# Altium schematic symbol library Terra.SCHLIB: 53 symbols
Pins are listed as number, name and electrical type; pins without a type are passive.

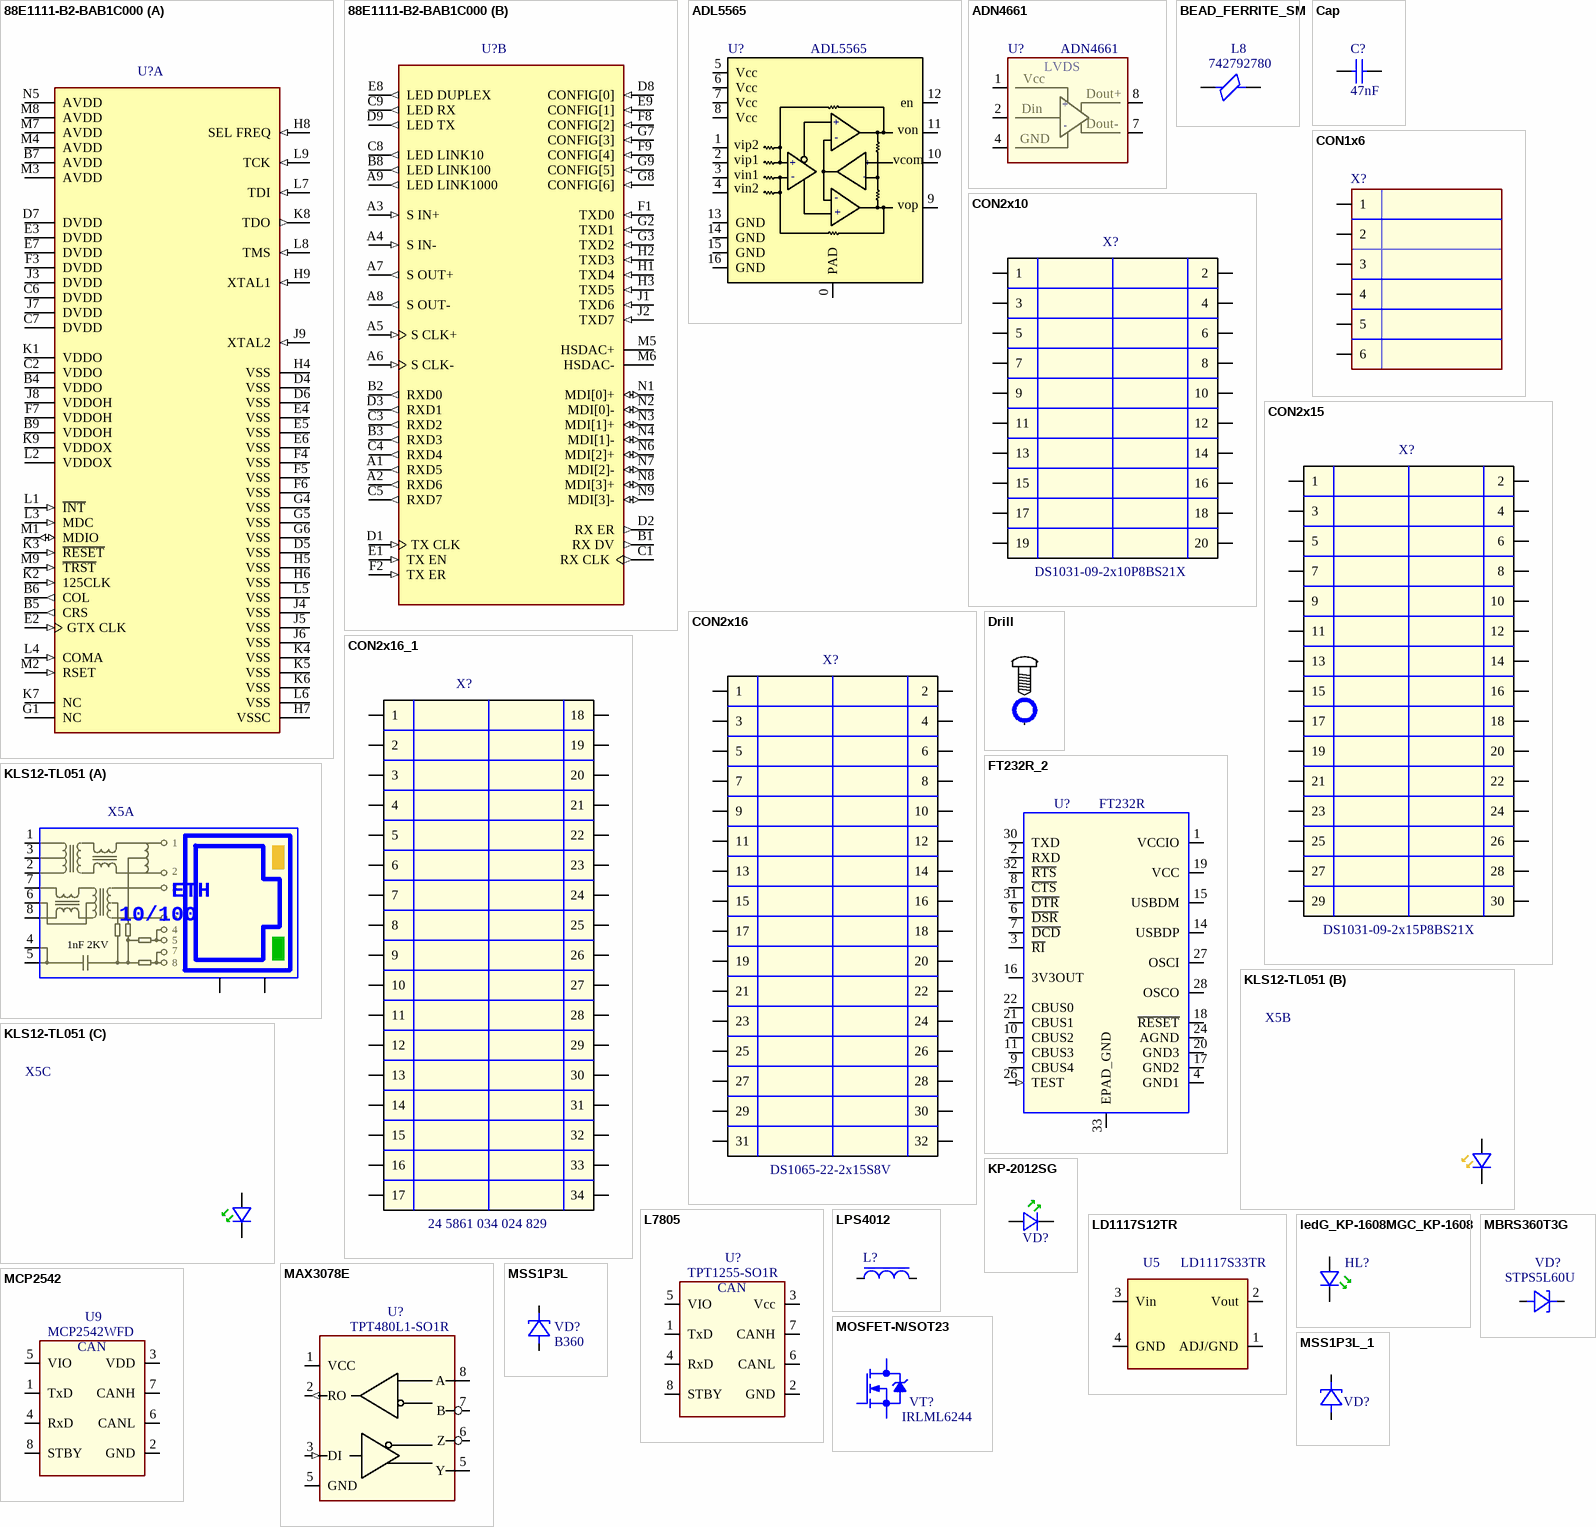
[diagram p0: symbols 88E1111-B2-BAB1C000 to MSS1P3L_1]

## 88E1111-B2-BAB1C000
designator U?  (value not drawn)
Integrated 10/100/1000 Ultra Gigabit Ethernet Transceiver; Value: 88E1111-B2-BAB1C000; PackageReference: QFN96
footprint Marvell_88E1111-B2-BAB1C000_0
part A pins: B4 VDDO (power), B5 CRS (out), B6 COL (out), B7 AVDD (power), B9 VDDOH (power), C2 VDDO (power), C6 DVDD (power), C7 DVDD (power), D4 VSS (power), D5 VSS (power), D6 VSS (power), D7 DVDD (power), E2 GTX CLK (in), E3 DVDD (power), E4 VSS (power), E5 VSS (power), E6 VSS (power), E7 DVDD (power), F3 DVDD (power), F4 VSS (power), F5 VSS (power), F6 VSS (power), F7 VDDOH (power), G1 NC, G4 VSS (power), G5 VSS (power), G6 VSS (power), H4 VSS (power), H5 VSS (power), H6 VSS (power), H7 VSSC (power), H8 SEL FREQ (in), H9 XTAL1 (in), J3 DVDD (power), J4 VSS (power), J5 VSS (power), J6 VSS (power), J7 DVDD (power), J8 VDDOH (power), J9 XTAL2 (in), K1 VDDO (power), K2 125CLK (in), K3 ~{RESET} (in), K4 VSS (power), K5 VSS (power), K6 VSS (power), K7 NC, K8 TDO (out), K9 VDDOX (power), L1 ~{INT} (in), L2 VDDOX (power), L3 MDC (in), L4 COMA (in), L5 VSS (power), L6 VSS (power), L7 TDI (in), L8 TMS (in), L9 TCK (in), M1 MDIO (io), M2 RSET (in), M3 AVDD (power), M4 AVDD (power), M7 AVDD (power), M8 AVDD (power), M9 ~{TRST} (in), N5 AVDD (power)
part B pins: A1 RXD5 (out), A2 RXD6 (out), A3 S IN+ (in), A4 S IN- (in), A5 S CLK+ (in), A6 S CLK- (in), A7 S OUT+ (out), A8 S OUT- (out), A9 LED LINK1000 (out), B1 RX DV (out), B2 RXD0 (out), B3 RXD3 (out), B8 LED LINK100 (out), C1 RX CLK (out), C3 RXD2 (out), C4 RXD4 (out), C5 RXD7 (out), C8 LED LINK10 (out), C9 LED RX (out), D1 TX CLK (in), D2 RX ER (out), D3 RXD1 (out), D8 CONFIG[0] (in), D9 LED TX (out), E1 TX EN (in), E8 LED DUPLEX (out), E9 CONFIG[1] (in), F1 TXD0 (in), F2 TX ER (in), F8 CONFIG[2] (in), F9 CONFIG[4] (in), G2 TXD1 (in), G3 TXD2 (in), G7 CONFIG[3] (in), G8 CONFIG[6] (in), G9 CONFIG[5] (in), H1 TXD4 (in), H2 TXD3 (in), H3 TXD5 (in), J1 TXD6 (in), J2 TXD7 (in), M5 HSDAC+, M6 HSDAC-, N1 MDI[0]+ (io), N2 MDI[0]- (io), N3 MDI[1]+ (io), N4 MDI[1]- (io), N6 MDI[2]+ (io), N7 MDI[2]- (io), N8 MDI[3]+ (io), N9 MDI[3]- (io)

## ADL5565
designator U?
6 GHz Differential Amplifier; Value: ADL5565; PackageReference: LFCSP-16; ClassName: *
footprint CP_16_2_ADI-L
pins: 0 PAD (power), 1 vip2, 2 vip1, 3 vin1, 4 vin2, 5 Vcc (power), 6 Vcc (power), 7 Vcc (power), 8 Vcc (power), 9 vop, 10 vcom, 11 von, 12 en, 13 GND (power), 14 GND (power), 15 GND (power), 16 GND (power)
text: +; -

## ADN4661
designator U?
LVDS, High Speed Differential Driver; Value: DS90LV047A; PackageReference: SO8
pins: 1 Vss (power), 2 Din+, 3 NC (power), 4 GND (power), 5 NC (power), 6 NC (power), 7 OUT0-, 8 OUT0+
text: LVDS; Vcc; Dout+; +; Din; -; Dout-

## BEAD_FERRITE_SM
designator L8, comment 742792780
Wurth Elektronik EMI FILTERS FERRITE BEAD, 220R@100MHz, 0.35R; PackageReference: 0402; Value: 742792780; ClassName: *
footprint 0402
footprint L0402 (Chip Choke 1.0x0.5mm)
pins: 1, 2

## Cap
designator C?  value 47nF  (hidden comment: Cap)
Конденсатор керамический; PackageReference: 0603
simulation model CAP (Capacitor)
signal-integrity model Cap
footprint C0603
footprint C0805
footprint C1812 (Chip Capacitor, 2-Leads, Body 4,5x3,3mm, IPC Medium Density)
pins: 1, 2

## CON1x6
designator X?
Разъем JTAG; Value: CON1x6
footprint MW-03M
pins: 1, 2, 3, 4, 5, 6

## CON2x10
designator X?, comment DS1031-09-2x10P8BS21X
Гребенка 1.27 мм на плату; Value: DS1031-09-2x10P8BS21X
pins: 1, 2, 3, 4, 5, 6, 7, 8, 9, 10, 11, 12, 13, 14, 15, 16, 17, 18, 19, 20

## CON2x15
designator X?, comment DS1031-09-2x15P8BS21X
footprint HEADER-2X16 (PLD2-12  Штыревой соединитель 2х16 шаг 2мм двухрядный прямой)
pins: 1, 2, 3, 4, 5, 6, 7, 8, 9, 10, 11, 12, 13, 14, 15, 16, 17, 18, 19, 20, 21, 22, 23, 24, 25, 26, 27, 28, 29, 30

## CON2x16
designator X?, comment DS1065-22-2х15S8V
Гнездо 1.27 мм на плату; Value: DS1065-22-2х15S8V
pins: 1, 2, 3, 4, 5, 6, 7, 8, 9, 10, 11, 12, 13, 14, 15, 16, 17, 18, 19, 20, 21, 22, 23, 24, 25, 26, 27, 28, 29, 30, 31, 32

## CON2x16_1
designator X?, comment 24 5861 034 024 829
Розетка  Kyocera; Value: 24 5861 034 024 829
pins: 1, 2, 3, 4, 5, 6, 7, 8, 9, 10, 11, 12, 13, 14, 15, 16, 17, 18, 19, 20, 21, 22, 23, 24, 25, 26, 27, 28, 29, 30, 31, 32, 33, 34

## Drill
designator DRL?  (value not drawn)  (no BOM)
Крепёжное отверстие
footprint Drill 0.8 (Крепёжное отверстие 0.8мм)
footprint Drill 2.2 (Крепёжное отверстие 2.2мм)
footprint Drill 2.8 (Крепёжное отверстие 2.8мм)
footprint Drill 3.2 (Крепёжное отверстие 3.2мм)
footprint PAD3
pins: 1

## FT232R_2
designator U?, comment FT232R
USB to serial UART interface; Part Class: ICS; Item Num: P01-17819R; Value: FT232RQ-REEL; Device: U17; Num Pins: 32; PackageReference: QFN32
footprint Qfn32-ftdi
pins: 1 VCCIO (power), 2 RXD, 3 ~{RI}, 4 GND1 (power), 6 ~{DSR}, 7 ~{DCD}, 8 ~{CTS}, 9 CBUS4, 10 CBUS2, 11 CBUS3, 14 USBDP, 15 USBDM, 16 3V3OUT (power), 17 GND2 (power), 18 ~{RESET}, 19 VCC (power), 20 GND3 (power), 21 CBUS1, 22 CBUS0, 24 AGND (power), 26 TEST (in), 27 OSCI, 28 OSCO, 30 TXD, 31 ~{DTR}, 32 ~{RTS}, 33 EPAD_GND (power)

## KLS12-TL051
designator X5  (value not drawn)
10/100 RJ45 с трансформаторами и двумя светодиодами; Value: KLS12-TL051
footprint KLS12-TL051 (10/100 ETH разъём с двумя светодиодами)
part A pins: 0 PAD1, 0 PAD2, 1, 2, 3, 4, 5, 6, 7, 8
part B pins: 11, 12
part C pins: 9, 10
part A text: ETH; 10/100; 1nF 2KV

## KP-2012SG
designator VD?, comment Красный  (value not drawn)
Светодиод зелёный; Value: KP-2012SGD; Color: Green; PackageReference: 0603
footprint LED0805R
footprint LED0805G
footprint LED0805Y
pins: 1, 2

## L7805
designator U?, comment TPT1255-SO1R
CAN Transceiver; PackageReference: SO8; Value: TPT1255-SO1R
footprint SO8 (SOIC, 8-Leads, Body 5,0x4,0mm (max), Pitch 1,27mm)
pins: 1 TxD, 2 GND (power), 3 Vcc (power), 4 NC hidden, 4 RxD, 5 NC hidden, 5 VIO, 6 CANL, 7 CANH, 8 STBY
text: CAN

## LD1117S12TR
designator U5  value LD1117S33TR  (hidden comment: LD1117S12TR)
Линейный стабилизатор; PackageReference: SOT-223; ClassName: *
footprint SOT223
pins: 1 ADJ/GND, 2 Vout, 3 Vin, 4 GND

## ledG_KP-1608MGC_KP-1608
designator HL?
1.6X0.8mm SMD  LED; Value: KP-1608MGC; LxWxH(mm): 1,6x0,8x1,1; PackageReference: 0603; Package: KP-1608_16x08x11
footprint KP-1608_16x08x11_L
footprint KP-1608_16x08x11_N
pins: 1 Anode, 2 Cathode

## LPS4012
designator L?, comment 4.7uH  (value not drawn)
4.7uH, 3.4A, 0.047R; PackageReference: 4.7uH
footprint ind_252012CDMQCDS_25x20x12_L (Chip Inductor, Body 2.5x2.0mm, IPC High Density)
pins: 1, 2

## MAX3078E
designator U?, comment TPT480L1-SO1R
RS-485 Transievers; PackageReference: SO8; Value: TPT480L1-SO1R
footprint SO8 (SOIC, 8-Leads, Body 5,0x4,0mm (max), Pitch 1,27mm)
pins: 1 VCC (power), 2 RO (out), 3 DI (in), 5 GND (power), 5 Y, 6 Z, 7 B, 8 A

## MBRS360T3G
designator VD?, comment STPS5L60U
Диод Шоттки силовой; PCB_SEL: POWER1; PackageReference: SMB; Value: STPS5L60U
footprint DO214AC
pins: 1 ANODE, 2 CATHODE

## MCP2542
designator U9, comment MCP2542WFD
CAN Transceiver; PackageReference: SO8; Value: MCP2542WFD; ClassName: CAN BUS
footprint SO8 (SOIC, 8-Leads, Body 5,0x4,0mm (max), Pitch 1,27mm)
pins: 1 TxD, 2 GND (power), 3 VDD (power), 4 NC hidden, 4 RxD, 5 NC hidden, 5 VIO, 6 CANL, 7 CANH, 8 STBY
text: CAN

## MOSFET-N/SOT23
designator VT?, comment IRLML6244
Value: IRLML6244TRPbF; PackageReference: SOT23
footprint SOT23_123
pins: 1 Gate, 2 Sourse, 3 Drain

## MSS1P3L
designator VD?, comment B360
Диод Шоттки 40В 5А; PCB_SEL: POWER1; PackageReference: DO-214AA; Value: B360
footprint DO214AA (Molded Diode, 2-Leads, Body 4,4x3,6mm)
pins: 1, 2

## MSS1P3L_1
designator VD?, comment B360  (value not drawn)
Диод Шоттки 40В 0.2А; Value: 1PS79SB30,115; PackageReference: SOD-523
pins: 1, 2

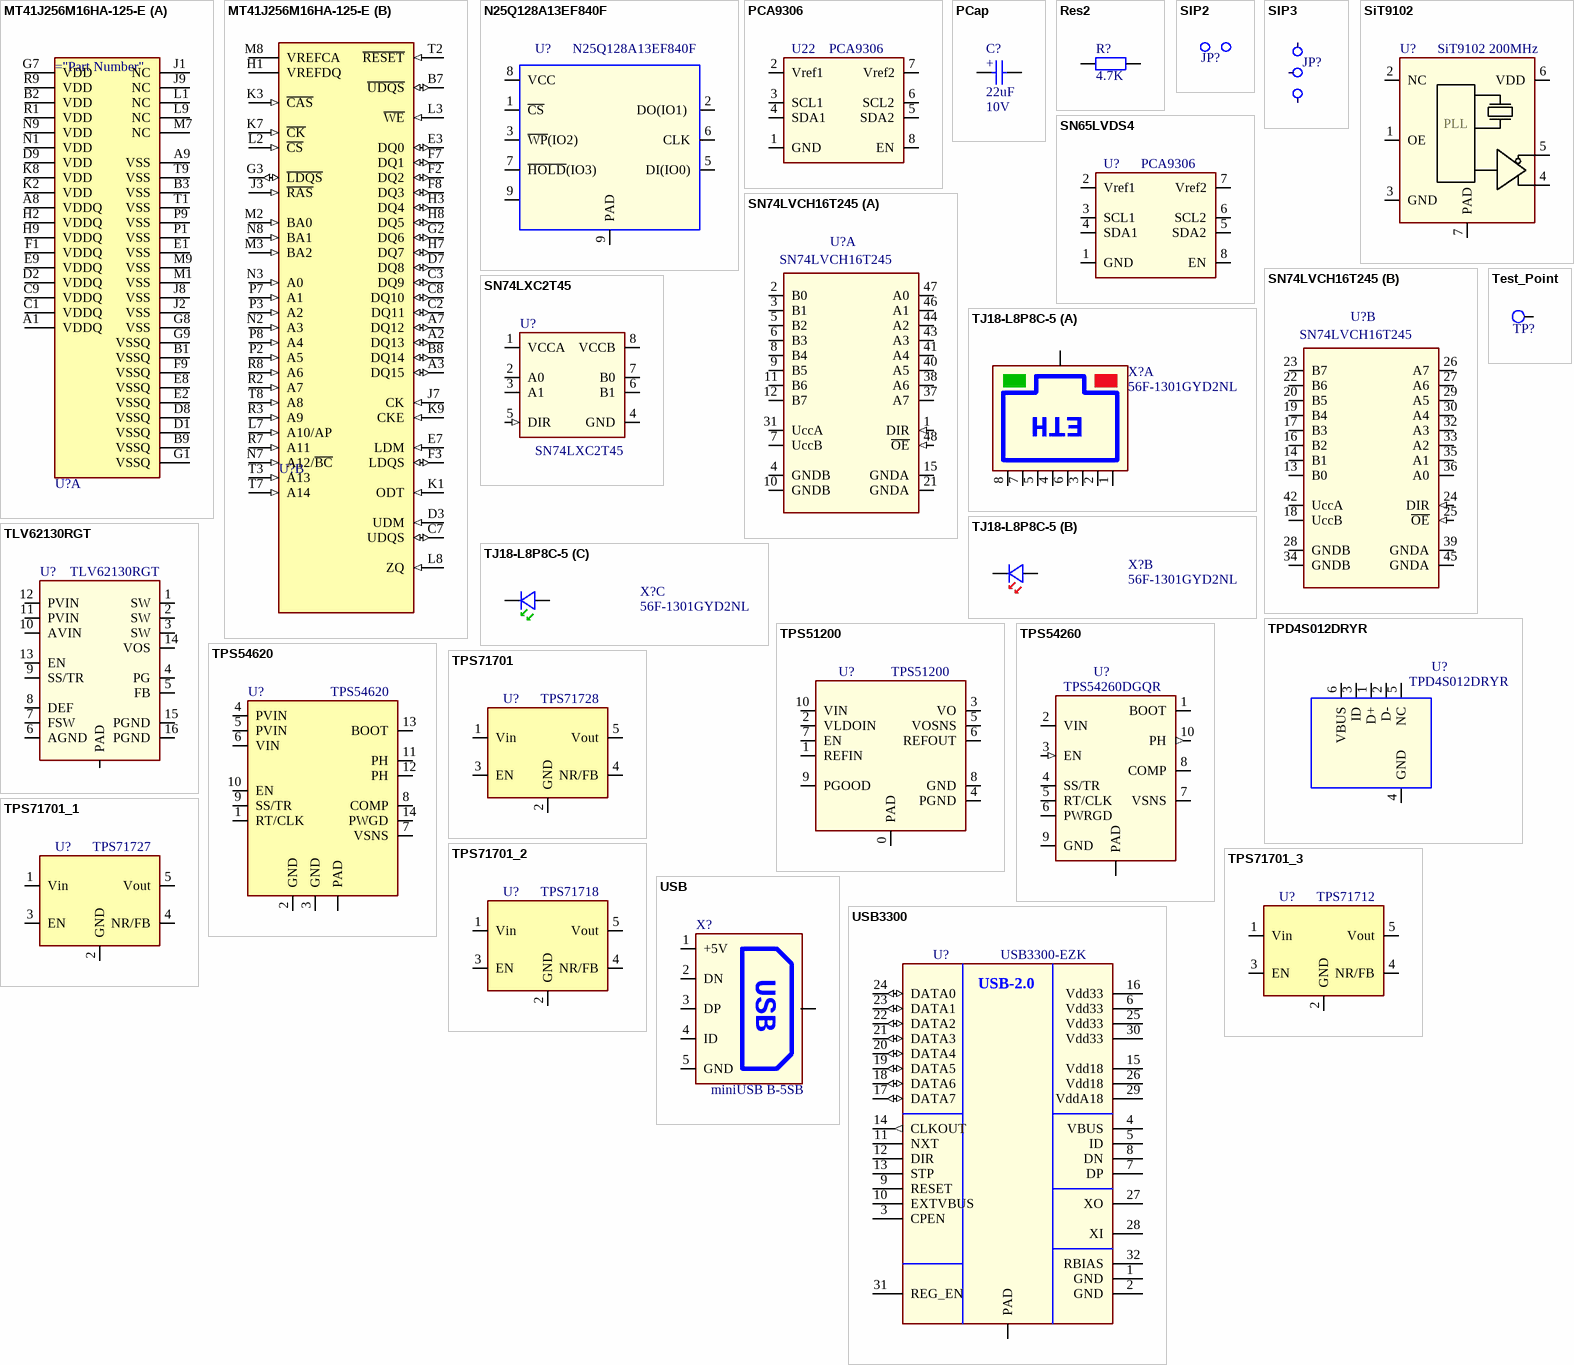
[diagram p1: symbols MT41J256M16HA-125-E to USB3300]

## MT41J256M16HA-125-E
designator U?  (value not drawn)
DDR3 SDRAM 32Meg x 16 x 8 banks; Value: MT41J256M16HA-125-E; PackageReference: FBGA-96
footprint FBGA96_9X14_MRN
part A pins: A1 VDDQ (power), A8 VDDQ (power), A9 VSS (power), B1 VSSQ (power), B2 VDD (power), B3 VSS (power), B9 VSSQ (power), C1 VDDQ (power), C9 VDDQ (power), D1 VSSQ (power), D2 VDDQ (power), D8 VSSQ (power), D9 VDD (power), E1 VSS (power), E2 VSSQ (power), E8 VSSQ (power), E9 VDDQ (power), F1 VDDQ (power), F9 VSSQ (power), G1 VSSQ (power), G7 VDD (power), G8 VSS (power), G9 VSSQ (power), H2 VDDQ (power), H9 VDDQ (power), J1 NC, J2 VSS (power), J8 VSS (power), J9 NC, K2 VDD (power), K8 VDD (power), L1 NC, L9 NC, M1 VSS (power), M7 NC, M9 VSS (power), N1 VDD (power), N9 VDD (power), P1 VSS (power), P9 VSS (power), R1 VDD (power), R9 VDD (power), T1 VSS (power), T9 VSS (power)
part B pins: A2 DQ13 (io), A3 DQ15 (io), A7 DQ12 (io), B7 ~{UDQS} (io), B8 DQ14 (io), C2 DQ11 (io), C3 DQ9 (io), C7 UDQS (io), C8 DQ10 (io), D3 UDM (in), D7 DQ8 (io), E3 DQ0 (io), E7 LDM (in), F2 DQ2 (io), F3 LDQS (io), F7 DQ1 (io), F8 DQ3 (io), G2 DQ6 (io), G3 ~{LDQS} (io), H1 VREFDQ (power), H3 DQ4 (io), H7 DQ7 (io), H8 DQ5 (io), J3 ~{RAS} (in), J7 CK (in), K1 ODT (in), K3 ~{CAS} (in), K7 ~{CK} (in), K9 CKE (in), L2 ~{CS} (in), L3 ~{WE} (in), L7 A10/AP (in), L8 ZQ (in), M2 BA0 (in), M3 BA2 (in), M8 VREFCA (power), N2 A3 (in), N3 A0 (in), N7 A12/~{BC} (in), N8 BA1 (in), P2 A5 (in), P3 A2 (in), P7 A1 (in), P8 A4 (in), R2 A7 (in), R3 A9 (in), R7 A11 (in), R8 A6 (in), T2 ~{RESET} (in), T3 A13 (in), T7 A14 (in), T8 A8 (in)

## N25Q128A13EF840F
designator U?
Serial NOR Flash 128Mb 3V; Value: N25Q128A13EF840F; PackageReference: MLP8
footprint SO16_WIDE
pins: 1 ~{CS}, 2 DO(IO1) , 3 ~{WP}(IO2), 5 DI(IO0), 6 CLK, 7 ~{HOLD}(IO3), 8 VCC (power), 9 (power), 9 PAD (power)

## PCA9306
designator U22  value PCA9306
Преобразователь уровня I2C; PackageReference: QFN-10; ClassName: LEVEL SHIFTER
footprint QFN-10
footprint 7WBD3306AMUTCG
pins: 1 GND (power), 2 Vref1 (power), 3 SCL1, 4 SDA1, 5 SDA2, 6 SCL2, 7 Vref2 (power), 8 EN

## PCap
designator C?, comment value 22uF  Voltage: 10V  (hidden comment: сap)
Конденсатор керамический; Info: X5R 10%  GRM32ER61A226; PackageReference: "B" 3528
simulation model CAP (Capacitor)
signal-integrity model Cap
footprint (A)3216 (Танталовый конденсатор "A" 3,3x1,6mm)
footprint (B)3528 (Танталовый конденсатор "B" 3,5x2,0mm)
footprint (C)6032 (Танталовый конденсатор "C" 6,1x3,4mm)
footprint (D)7343 (Танталовый конденсатор "D" 7,4x4,3mm)
footprint (E)7343 (Танталовый конденсатор "E" 7,4x4,3mm)
pins: 1, 2
text: +

## Res2
designator R?  value 4.7K  (hidden comment: Res2)
Резистор; PackageReference: 0402
simulation model RESISTOR (Resistor)
signal-integrity model Res
footprint R0603
footprint R0805
footprint R0402 (Chip Resistor, Body 1.0x0.5mm, IPC High Density)
pins: 1, 2

## SIP2
designator JP?  (no BOM)
Печатная перемычка на плате
footprint JUMP
pins: 1, 2

## SIP3
designator JP?  (no BOM)
Печатная перемычка на плате
footprint JUMP-3
pins: 1, 2, 3

## SiT9102
designator U?, comment SiT9102 200MHz
Value: SiT9102
pins: 1 OE (power), 2 NC, 3 GND (power), 4 CLKP, 5 CLKN, 6 VDD (power), 7 PAD (power)
text: PLL

## SN65LVDS4
designator U?  value PCA9306
Преобразователь уровня I2C
footprint QFN-10
footprint 7WBD3306AMUTCG
pins: 1 GND (power), 2 Vref1 (power), 3 SCL1, 4 SDA1, 5 SDA2, 6 SCL2, 7 Vref2 (power), 8 EN

## SN74LVCH16T245
designator U?
Преобразователь уровня; Value: SN74LVCH16T245; PackageReference: PSOP-DGG
footprint PSOP-DGG
footprint SOP50P810X120-48N
pins on every part: 173 hidden, 174 hidden
part A pins: 1 DIR (in), 2 B0, 3 B1, 4 GNDB, 5 B2, 6 B3, 7 UccB, 8 B4, 9 B5, 10 GNDB, 11 B6, 12 B7, 15 GNDA, 21 GNDA, 31 UccA, 37 A7, 38 A6, 40 A5, 41 A4, 43 A3, 44 A2, 46 A1, 47 A0, 48 ~{OE} (in)
part B pins: 13 B0, 14 B1, 16 B2, 17 B3, 18 UccB, 19 B4, 20 B5, 22 B6, 23 B7, 24 DIR (in), 25 ~{OE} (in), 26 A7, 27 A6, 28 GNDB, 29 A5, 30 A4, 32 A3, 33 A2, 34 GNDB, 35 A1, 36 A0, 39 GNDA, 42 UccA, 45 GNDA

## SN74LXC2T45
designator U?
Преобразователь уровня; PackageReference: VSSOP; Value: SN74LXC2T45
footprint SOP50P310X90-8N
pins: 1 VCCA (power), 2 A0, 3 A1, 4 GND (power), 5 DIR (in), 6 B1, 7 B0, 8 VCCB (power)

## Test_Point
designator TP?  (no BOM)
Тестовая точка на плате; MarkPCB: +5V
footprint TP_0MM5_1MM0 (Тестовая точка с отверстием 0.5мм и площадкой 1мм)
pins: 1 e1

## TJ18-L8P8C-5
designator X?, comment 56F-1301GYD2NL
10/100 ETH разъём с трансформаторами и двумя светодиодами; Value: 56F-1301GYD2NL
footprint TJ18-L8P8C-5 (10/100 ETH разъём с двумя светодиодами)
footprint ETH (10/100 ETH разъём с двумя светодиодами)
part A pins: 0, 1, 2, 3, 4, 5, 6, 7, 8
part B pins: 9, 10
part C pins: 11, 12
part A text: ETH

## TLV62130RGT
designator U?
3V to 17V 3A Step-Down Converter; PackageReference: VQFN-16; Value: TLV62130RGT
pins: 0 PAD (power), 1 SW, 2 SW, 3 SW, 4 PG, 5 FB, 6 AGND (power), 7 FSW, 8 DEF, 9 SS/TR, 10 AVIN (power), 11 PVIN (power), 12 PVIN (power), 13 EN, 14 VOS, 15 PGND (power), 16 PGND (power)

## TPD4S012DRYR
designator U?  value TPD4S012DRYR
Защитные диоды USB; PackageReference: SON6
footprint SON6
pins: 1 D+, 2 D-, 3 ID, 4 GND, 5 NC, 6 VBUS

## TPS51200
designator U?
Sink and Source DDR Termination Regulator; Value: TPS51200; PackageReference: VSON10
pins: 0 PAD, 1 REFIN, 2 VLDOIN, 3 VO, 4 PGND, 5 VOSNS, 6 REFOUT, 7 EN, 8 GND, 9 PGOOD, 10 VIN, 173 hidden, 174 hidden

## TPS54260
designator U?  value TPS54260DGQR
Импульсный понижающий преобразователь o 60V Input, 2.5A; PCB_SEL: POWER1; PackageReference: MSOP-10
pins: 0 PAD (power), 1 BOOT, 2 VIN (power), 3 EN (in), 4 SS/TR, 5 RT/CLK, 6 PWRGD, 7 VSNS, 8 COMP, 9 GND (power), 10 PH (out)

## TPS54620
designator U?, comment value TPS54620  (hidden comment: TPS60500)
4.5V to 17V  6A Step-down Converter; PackageReference: VQFN-14
pins: 0 PAD, 1 RT/CLK, 2 GND, 3 GND, 4 PVIN, 5 PVIN, 6 VIN, 7 VSNS, 8 COMP, 9 SS/TR, 10 EN, 11 PH, 12 PH, 13 BOOT, 14 PWGD

## TPS71701
designator U?  value TPS71728
Линейный стабилизатор +2.8В; PackageReference: SC70-5
footprint SOT23_5
pins: 1 Vin, 2 GND, 3 EN, 4 NR/FB, 5 Vout

## TPS71701_1
designator U?  value TPS71727
Линейный стабилизатор +2.7В; PackageReference: SC70-5
footprint SOT23_5
pins: 1 Vin, 2 GND, 3 EN, 4 NR/FB, 5 Vout

## TPS71701_2
designator U?  value TPS71718
Линейный стабилизатор +1.8В; PackageReference: SC70-5
footprint SOT23_5
pins: 1 Vin, 2 GND, 3 EN, 4 NR/FB, 5 Vout

## TPS71701_3
designator U?  value TPS71712
Линейный стабилизатор +1.2В; PackageReference: SC70-5
footprint SOT23_5
pins: 1 Vin, 2 GND, 3 EN, 4 NR/FB, 5 Vout

## USB
designator X?  value miniUSB B-5SB  (hidden comment: USB)
5-контактная SMD розетка
3D model SW3dPS-USB_mini_B (PCB3D Model)
footprint USBSMALL
pins: 0 PAD, 1 +5V, 2 DN, 3 DP, 4 ID, 5 GND

## USB3300
designator U?, comment USB3300-EZK
USB-2.0 driver; Value: USB3300-EZK; PackageReference: QFN32
footprint QFN-32
pins: 0 PAD, 1 GND (power), 2 GND (power), 3 CPEN, 4 VBUS, 5 ID, 6 Vdd33 (power), 7 DP, 8 DN, 9 RESET, 10 EXTVBUS, 11 NXT, 12 DIR, 13 STP, 14 CLKOUT (out), 15 Vdd18 (power), 16 Vdd33 (power), 17 DATA7 (io), 18 DATA6 (io), 19 DATA5 (io), 20 DATA4 (io), 21 DATA3 (io), 22 DATA2 (io), 23 DATA1 (io), 24 DATA0 (io), 25 Vdd33 (power), 26 Vdd18 (power), 27 XO, 28 XI, 29 VddA18 (power), 30 Vdd33 (power), 31 REG_EN, 32 RBIAS
text: USB-2.0

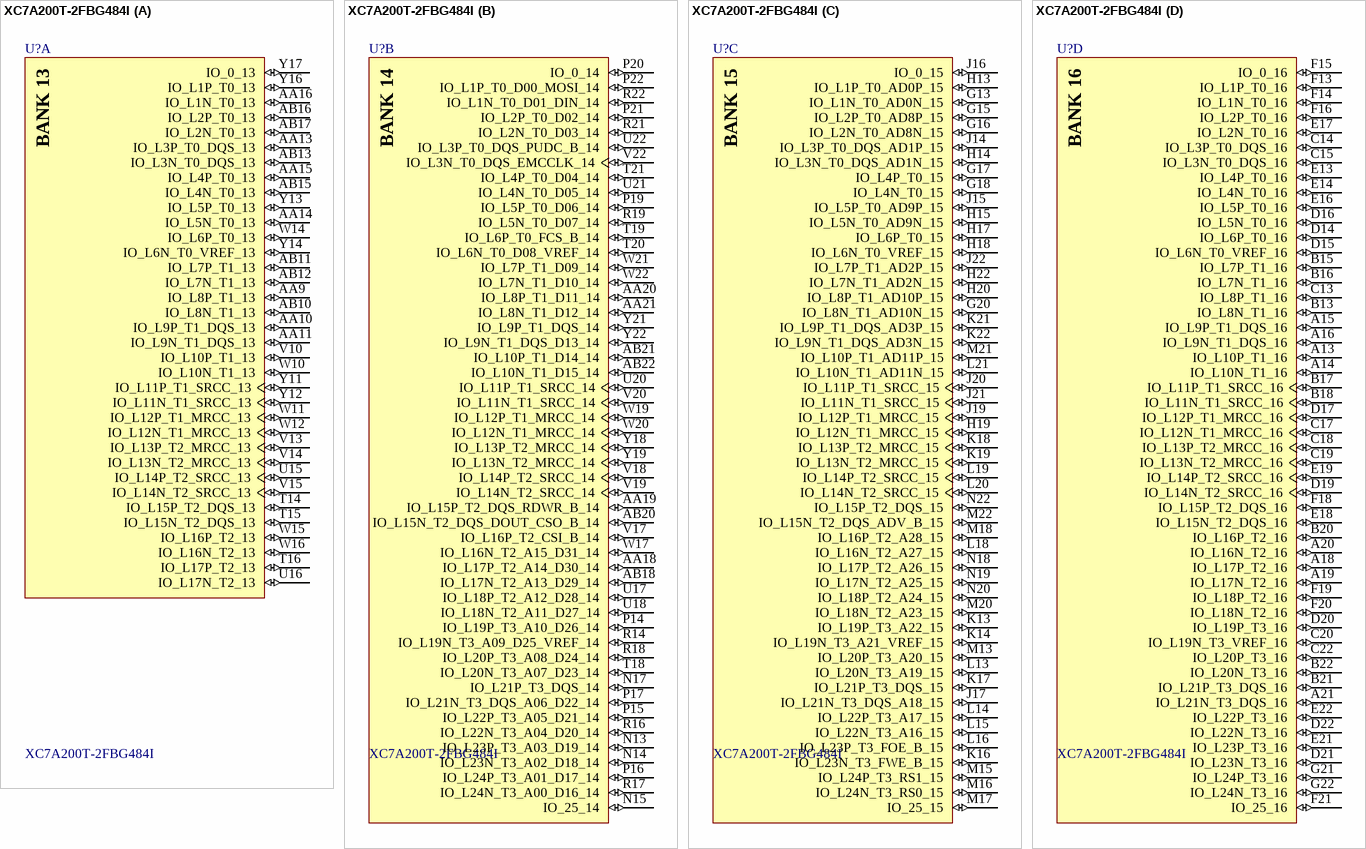
[diagram p2: symbol XC7A200T-2FBG484I]

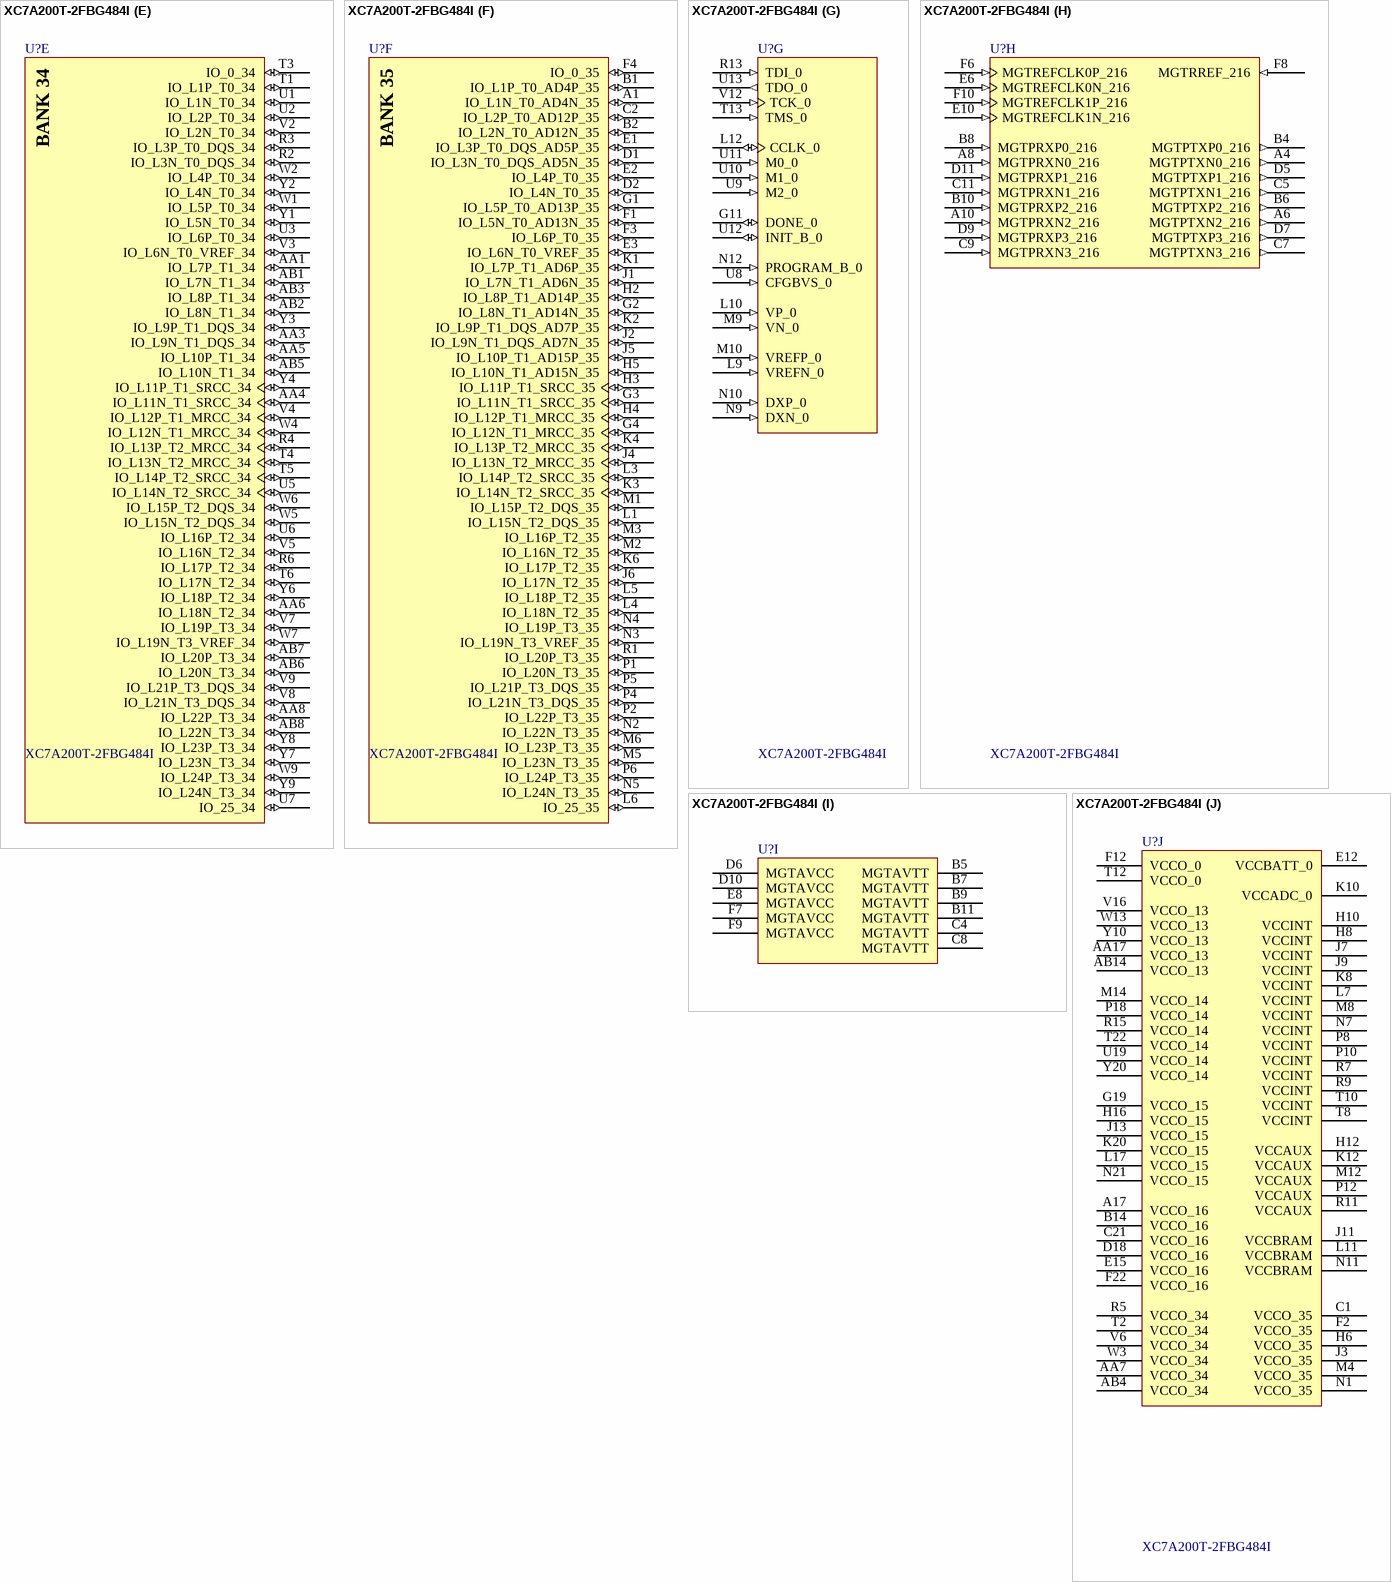
[diagram p3: symbol XC7A200T-2FBG484I]

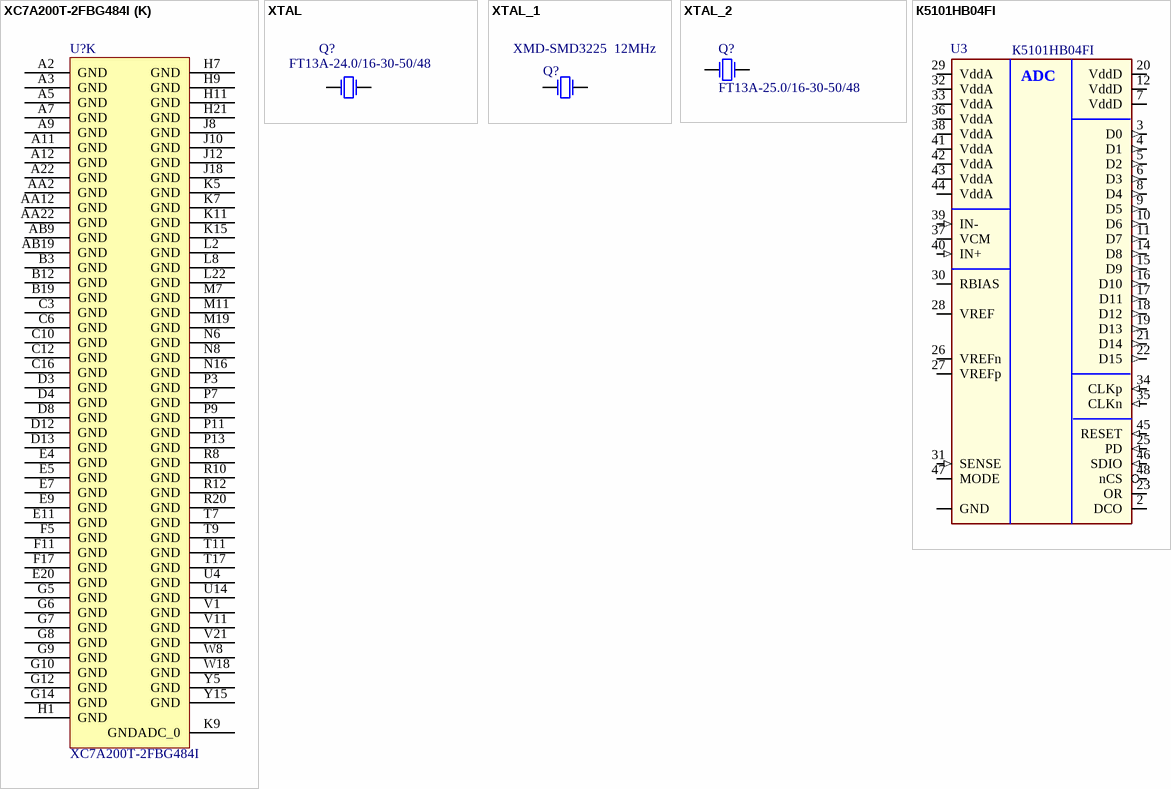
[diagram p4: symbols XC7A200T-2FBG484I to К5101НВ04FI]

## XC7A200T-2FBG484I
designator U?
Artix-7 FPGA, 285 User I/Os, 4 GTP, 484-Ball BGA; Manufacturer: Xilinx; CLBs (Slices): 33650; DSP48E1 Slices: 740; Block RAM Blocks (36Kb): 365; Logic Cells: 215360; Block RAM Blocks (Max Kb): 13140; Speed Grade: -2; Clock Mgmt Tiles (CMTs): 10; Block RAM Blocks (18Kb): 730; Max User I/O: 500; ComponentLink5Description: Packaging and Pinout; CLBs (Max Distributed RAM Kb): 2888; ComponentLink4Description: Package File; ComponentLink5URL: http://www.xilinx.com/support/documentation/user_guides/ug475_7Series_Pkg_Pinout.pdf; Value: XC7A200T-2FBG484I; ComponentLink1Description: Datasheet; ComponentLink2Description: Package Specification; DatasheetVersion: v1.12; ComponentLink3URL: http://www.xilinx.com/support/documentation/data_sheets/ds181_Artix_7_Data_Sheet.pdf; ComponentLink1URL: http://www.xilinx.com/support/documentation/data_sheets/ds180_7Series_Overview.pdf; Code_JEDEC: MS-034; ComponentLink2URL: http://www.xilinx.com/support/documentation/user_guides/ug475_7Series_Pkg_Pinout.pdf; ComponentLink3Description: DC and Switching Characteristics; Generic Part Number: XC7A200T; RoHS: Pb-Free; ComponentLink4URL: http://www.xilinx.com/support/packagefiles/a7packages/xc7a200tfbg484pkg.txt; PackageVersion: Rev 1.8; Mounting Technology: Surface Mount; PackageReference: FBG484; PackageDescription: Flip-Chip Lidless BGA, Body 23 x 23 mm, 1.0 mm Pitch
footprint FBG484
part A pins: AA9 IO_L8P_T1_13 (io), AA10 IO_L9P_T1_DQS_13 (io), AA11 IO_L9N_T1_DQS_13 (io), AA13 IO_L3P_T0_DQS_13 (io), AA14 IO_L5N_T0_13 (io), AA15 IO_L4P_T0_13 (io), AA16 IO_L1N_T0_13 (io), AB10 IO_L8N_T1_13 (io), AB11 IO_L7P_T1_13 (io), AB12 IO_L7N_T1_13 (io), AB13 IO_L3N_T0_DQS_13 (io), AB15 IO_L4N_T0_13 (io), AB16 IO_L2P_T0_13 (io), AB17 IO_L2N_T0_13 (io), T14 IO_L15P_T2_DQS_13 (io), T15 IO_L15N_T2_DQS_13 (io), T16 IO_L17P_T2_13 (io), U15 IO_L14P_T2_SRCC_13 (io), U16 IO_L17N_T2_13 (io), V10 IO_L10P_T1_13 (io), V13 IO_L13P_T2_MRCC_13 (io), V14 IO_L13N_T2_MRCC_13 (io), V15 IO_L14N_T2_SRCC_13 (io), W10 IO_L10N_T1_13 (io), W11 IO_L12P_T1_MRCC_13 (io), W12 IO_L12N_T1_MRCC_13 (io), W14 IO_L6P_T0_13 (io), W15 IO_L16P_T2_13 (io), W16 IO_L16N_T2_13 (io), Y11 IO_L11P_T1_SRCC_13 (io), Y12 IO_L11N_T1_SRCC_13 (io), Y13 IO_L5P_T0_13 (io), Y14 IO_L6N_T0_VREF_13 (io), Y16 IO_L1P_T0_13 (io), Y17 IO_0_13 (io)
part B pins: AA18 IO_L17P_T2_A14_D30_14 (io), AA19 IO_L15P_T2_DQS_RDWR_B_14 (io), AA20 IO_L8P_T1_D11_14 (io), AA21 IO_L8N_T1_D12_14 (io), AB18 IO_L17N_T2_A13_D29_14 (io), AB20 IO_L15N_T2_DQS_DOUT_CSO_B_14 (io), AB21 IO_L10P_T1_D14_14 (io), AB22 IO_L10N_T1_D15_14 (io), N13 IO_L23P_T3_A03_D19_14 (io), N14 IO_L23N_T3_A02_D18_14 (io), N15 IO_25_14 (io), N17 IO_L21P_T3_DQS_14 (io), P14 IO_L19P_T3_A10_D26_14 (io), P15 IO_L22P_T3_A05_D21_14 (io), P16 IO_L24P_T3_A01_D17_14 (io), P17 IO_L21N_T3_DQS_A06_D22_14 (io), P19 IO_L5P_T0_D06_14 (io), P20 IO_0_14 (io), P21 IO_L2P_T0_D02_14 (io), P22 IO_L1P_T0_D00_MOSI_14 (io), R14 IO_L19N_T3_A09_D25_VREF_14 (io), R16 IO_L22N_T3_A04_D20_14 (io), R17 IO_L24N_T3_A00_D16_14 (io), R18 IO_L20P_T3_A08_D24_14 (io), R19 IO_L5N_T0_D07_14 (io), R21 IO_L2N_T0_D03_14 (io), R22 IO_L1N_T0_D01_DIN_14 (io), T18 IO_L20N_T3_A07_D23_14 (io), T19 IO_L6P_T0_FCS_B_14 (io), T20 IO_L6N_T0_D08_VREF_14 (io), T21 IO_L4P_T0_D04_14 (io), U17 IO_L18P_T2_A12_D28_14 (io), U18 IO_L18N_T2_A11_D27_14 (io), U20 IO_L11P_T1_SRCC_14 (io), U21 IO_L4N_T0_D05_14 (io), U22 IO_L3P_T0_DQS_PUDC_B_14 (io), V17 IO_L16P_T2_CSI_B_14 (io), V18 IO_L14P_T2_SRCC_14 (io), V19 IO_L14N_T2_SRCC_14 (io), V20 IO_L11N_T1_SRCC_14 (io), V22 IO_L3N_T0_DQS_EMCCLK_14 (io), W17 IO_L16N_T2_A15_D31_14 (io), W19 IO_L12P_T1_MRCC_14 (io), W20 IO_L12N_T1_MRCC_14 (io), W21 IO_L7P_T1_D09_14 (io), W22 IO_L7N_T1_D10_14 (io), Y18 IO_L13P_T2_MRCC_14 (io), Y19 IO_L13N_T2_MRCC_14 (io), Y21 IO_L9P_T1_DQS_14 (io), Y22 IO_L9N_T1_DQS_D13_14 (io)
part C pins: G13 IO_L1N_T0_AD0N_15 (io), G15 IO_L2P_T0_AD8P_15 (io), G16 IO_L2N_T0_AD8N_15 (io), G17 IO_L4P_T0_15 (io), G18 IO_L4N_T0_15 (io), G20 IO_L8N_T1_AD10N_15 (io), H13 IO_L1P_T0_AD0P_15 (io), H14 IO_L3N_T0_DQS_AD1N_15 (io), H15 IO_L5N_T0_AD9N_15 (io), H17 IO_L6P_T0_15 (io), H18 IO_L6N_T0_VREF_15 (io), H19 IO_L12N_T1_MRCC_15 (io), H20 IO_L8P_T1_AD10P_15 (io), H22 IO_L7N_T1_AD2N_15 (io), J14 IO_L3P_T0_DQS_AD1P_15 (io), J15 IO_L5P_T0_AD9P_15 (io), J16 IO_0_15 (io), J17 IO_L21N_T3_DQS_A18_15 (io), J19 IO_L12P_T1_MRCC_15 (io), J20 IO_L11P_T1_SRCC_15 (io), J21 IO_L11N_T1_SRCC_15 (io), J22 IO_L7P_T1_AD2P_15 (io), K13 IO_L19P_T3_A22_15 (io), K14 IO_L19N_T3_A21_VREF_15 (io), K16 IO_L23N_T3_FWE_B_15 (io), K17 IO_L21P_T3_DQS_15 (io), K18 IO_L13P_T2_MRCC_15 (io), K19 IO_L13N_T2_MRCC_15 (io), K21 IO_L9P_T1_DQS_AD3P_15 (io), K22 IO_L9N_T1_DQS_AD3N_15 (io), L13 IO_L20N_T3_A19_15 (io), L14 IO_L22P_T3_A17_15 (io), L15 IO_L22N_T3_A16_15 (io), L16 IO_L23P_T3_FOE_B_15 (io), L18 IO_L16N_T2_A27_15 (io), L19 IO_L14P_T2_SRCC_15 (io), L20 IO_L14N_T2_SRCC_15 (io), L21 IO_L10N_T1_AD11N_15 (io), M13 IO_L20P_T3_A20_15 (io), M15 IO_L24P_T3_RS1_15 (io), M16 IO_L24N_T3_RS0_15 (io), M17 IO_25_15 (io), M18 IO_L16P_T2_A28_15 (io), M20 IO_L18N_T2_A23_15 (io), M21 IO_L10P_T1_AD11P_15 (io), M22 IO_L15N_T2_DQS_ADV_B_15 (io), N18 IO_L17P_T2_A26_15 (io), N19 IO_L17N_T2_A25_15 (io), N20 IO_L18P_T2_A24_15 (io), N22 IO_L15P_T2_DQS_15 (io)
part D pins: A13 IO_L10P_T1_16 (io), A14 IO_L10N_T1_16 (io), A15 IO_L9P_T1_DQS_16 (io), A16 IO_L9N_T1_DQS_16 (io), A18 IO_L17P_T2_16 (io), A19 IO_L17N_T2_16 (io), A20 IO_L16N_T2_16 (io), A21 IO_L21N_T3_DQS_16 (io), B13 IO_L8N_T1_16 (io), B15 IO_L7P_T1_16 (io), B16 IO_L7N_T1_16 (io), B17 IO_L11P_T1_SRCC_16 (io), B18 IO_L11N_T1_SRCC_16 (io), B20 IO_L16P_T2_16 (io), B21 IO_L21P_T3_DQS_16 (io), B22 IO_L20N_T3_16 (io), C13 IO_L8P_T1_16 (io), C14 IO_L3P_T0_DQS_16 (io), C15 IO_L3N_T0_DQS_16 (io), C17 IO_L12N_T1_MRCC_16 (io), C18 IO_L13P_T2_MRCC_16 (io), C19 IO_L13N_T2_MRCC_16 (io), C20 IO_L19N_T3_VREF_16 (io), C22 IO_L20P_T3_16 (io), D14 IO_L6P_T0_16 (io), D15 IO_L6N_T0_VREF_16 (io), D16 IO_L5N_T0_16 (io), D17 IO_L12P_T1_MRCC_16 (io), D19 IO_L14N_T2_SRCC_16 (io), D20 IO_L19P_T3_16 (io), D21 IO_L23N_T3_16 (io), D22 IO_L22N_T3_16 (io), E13 IO_L4P_T0_16 (io), E14 IO_L4N_T0_16 (io), E16 IO_L5P_T0_16 (io), E17 IO_L2N_T0_16 (io), E18 IO_L15N_T2_DQS_16 (io), E19 IO_L14P_T2_SRCC_16 (io), E21 IO_L23P_T3_16 (io), E22 IO_L22P_T3_16 (io), F13 IO_L1P_T0_16 (io), F14 IO_L1N_T0_16 (io), F15 IO_0_16 (io), F16 IO_L2P_T0_16 (io), F18 IO_L15P_T2_DQS_16 (io), F19 IO_L18P_T2_16 (io), F20 IO_L18N_T2_16 (io), F21 IO_25_16 (io), G21 IO_L24P_T3_16 (io), G22 IO_L24N_T3_16 (io)
part E pins: AA1 IO_L7P_T1_34 (io), AA3 IO_L9N_T1_DQS_34 (io), AA4 IO_L11N_T1_SRCC_34 (io), AA5 IO_L10P_T1_34 (io), AA6 IO_L18N_T2_34 (io), AA8 IO_L22P_T3_34 (io), AB1 IO_L7N_T1_34 (io), AB2 IO_L8N_T1_34 (io), AB3 IO_L8P_T1_34 (io), AB5 IO_L10N_T1_34 (io), AB6 IO_L20N_T3_34 (io), AB7 IO_L20P_T3_34 (io), AB8 IO_L22N_T3_34 (io), R2 IO_L3N_T0_DQS_34 (io), R3 IO_L3P_T0_DQS_34 (io), R4 IO_L13P_T2_MRCC_34 (io), R6 IO_L17P_T2_34 (io), T1 IO_L1P_T0_34 (io), T3 IO_0_34 (io), T4 IO_L13N_T2_MRCC_34 (io), T5 IO_L14P_T2_SRCC_34 (io), T6 IO_L17N_T2_34 (io), U1 IO_L1N_T0_34 (io), U2 IO_L2P_T0_34 (io), U3 IO_L6P_T0_34 (io), U5 IO_L14N_T2_SRCC_34 (io), U6 IO_L16P_T2_34 (io), U7 IO_25_34 (io), V2 IO_L2N_T0_34 (io), V3 IO_L6N_T0_VREF_34 (io), V4 IO_L12P_T1_MRCC_34 (io), V5 IO_L16N_T2_34 (io), V7 IO_L19P_T3_34 (io), V8 IO_L21N_T3_DQS_34 (io), V9 IO_L21P_T3_DQS_34 (io), W1 IO_L5P_T0_34 (io), W2 IO_L4P_T0_34 (io), W4 IO_L12N_T1_MRCC_34 (io), W5 IO_L15N_T2_DQS_34 (io), W6 IO_L15P_T2_DQS_34 (io), W7 IO_L19N_T3_VREF_34 (io), W9 IO_L24P_T3_34 (io), Y1 IO_L5N_T0_34 (io), Y2 IO_L4N_T0_34 (io), Y3 IO_L9P_T1_DQS_34 (io), Y4 IO_L11P_T1_SRCC_34 (io), Y6 IO_L18P_T2_34 (io), Y7 IO_L23N_T3_34 (io), Y8 IO_L23P_T3_34 (io), Y9 IO_L24N_T3_34 (io)
part F pins: A1 IO_L1N_T0_AD4N_35 (io), B1 IO_L1P_T0_AD4P_35 (io), B2 IO_L2N_T0_AD12N_35 (io), C2 IO_L2P_T0_AD12P_35 (io), D1 IO_L3N_T0_DQS_AD5N_35 (io), D2 IO_L4N_T0_35 (io), E1 IO_L3P_T0_DQS_AD5P_35 (io), E2 IO_L4P_T0_35 (io), E3 IO_L6N_T0_VREF_35 (io), F1 IO_L5N_T0_AD13N_35 (io), F3 IO_L6P_T0_35 (io), F4 IO_0_35 (io), G1 IO_L5P_T0_AD13P_35 (io), G2 IO_L8N_T1_AD14N_35 (io), G3 IO_L11N_T1_SRCC_35 (io), G4 IO_L12N_T1_MRCC_35 (io), H2 IO_L8P_T1_AD14P_35 (io), H3 IO_L11P_T1_SRCC_35 (io), H4 IO_L12P_T1_MRCC_35 (io), H5 IO_L10N_T1_AD15N_35 (io), J1 IO_L7N_T1_AD6N_35 (io), J2 IO_L9N_T1_DQS_AD7N_35 (io), J4 IO_L13N_T2_MRCC_35 (io), J5 IO_L10P_T1_AD15P_35 (io), J6 IO_L17N_T2_35 (io), K1 IO_L7P_T1_AD6P_35 (io), K2 IO_L9P_T1_DQS_AD7P_35 (io), K3 IO_L14N_T2_SRCC_35 (io), K4 IO_L13P_T2_MRCC_35 (io), K6 IO_L17P_T2_35 (io), L1 IO_L15N_T2_DQS_35 (io), L3 IO_L14P_T2_SRCC_35 (io), L4 IO_L18N_T2_35 (io), L5 IO_L18P_T2_35 (io), L6 IO_25_35 (io), M1 IO_L15P_T2_DQS_35 (io), M2 IO_L16N_T2_35 (io), M3 IO_L16P_T2_35 (io), M5 IO_L23N_T3_35 (io), M6 IO_L23P_T3_35 (io), N2 IO_L22N_T3_35 (io), N3 IO_L19N_T3_VREF_35 (io), N4 IO_L19P_T3_35 (io), N5 IO_L24N_T3_35 (io), P1 IO_L20N_T3_35 (io), P2 IO_L22P_T3_35 (io), P4 IO_L21N_T3_DQS_35 (io), P5 IO_L21P_T3_DQS_35 (io), P6 IO_L24P_T3_35 (io), R1 IO_L20P_T3_35 (io)
part G pins: G11 DONE_0 (io), L9 VREFN_0 (in), L10 VP_0 (in), L12 CCLK_0 (io), M9 VN_0 (in), M10 VREFP_0 (in), N9 DXN_0 (in), N10 DXP_0 (in), N12 PROGRAM_B_0 (in), R13 TDI_0 (in), T13 TMS_0 (in), U8 CFGBVS_0 (in), U9 M2_0 (in), U10 M1_0 (in), U11 M0_0 (in), U12 INIT_B_0 (io), U13 TDO_0 (out), V12 TCK_0 (in)
part H pins: A4 MGTPTXN0_216 (out), A6 MGTPTXN2_216 (out), A8 MGTPRXN0_216 (in), A10 MGTPRXN2_216 (in), B4 MGTPTXP0_216 (out), B6 MGTPTXP2_216 (out), B8 MGTPRXP0_216 (in), B10 MGTPRXP2_216 (in), C5 MGTPTXN1_216 (out), C7 MGTPTXN3_216 (out), C9 MGTPRXN3_216 (in), C11 MGTPRXN1_216 (in), D5 MGTPTXP1_216 (out), D7 MGTPTXP3_216 (out), D9 MGTPRXP3_216 (in), D11 MGTPRXP1_216 (in), E6 MGTREFCLK0N_216 (in), E10 MGTREFCLK1N_216 (in), F6 MGTREFCLK0P_216 (in), F8 MGTRREF_216 (in), F10 MGTREFCLK1P_216 (in)
part I pins: B5 MGTAVTT (power), B7 MGTAVTT (power), B9 MGTAVTT (power), B11 MGTAVTT (power), C4 MGTAVTT (power), C8 MGTAVTT (power), D6 MGTAVCC (power), D10 MGTAVCC (power), E8 MGTAVCC (power), F7 MGTAVCC (power), F9 MGTAVCC (power)
part J pins: A17 VCCO_16 (power), AA7 VCCO_34 (power), AA17 VCCO_13 (power), AB4 VCCO_34 (power), AB14 VCCO_13 (power), B14 VCCO_16 (power), C1 VCCO_35 (power), C21 VCCO_16 (power), D18 VCCO_16 (power), E12 VCCBATT_0 (power), E15 VCCO_16 (power), F2 VCCO_35 (power), F12 VCCO_0 (power), F22 VCCO_16 (power), G19 VCCO_15 (power), H6 VCCO_35 (power), H8 VCCINT (power), H10 VCCINT (power), H12 VCCAUX (power), H16 VCCO_15 (power), J3 VCCO_35 (power), J7 VCCINT (power), J9 VCCINT (power), J11 VCCBRAM (power), J13 VCCO_15 (power), K8 VCCINT (power), K10 VCCADC_0 (power), K12 VCCAUX (power), K20 VCCO_15 (power), L7 VCCINT (power), L11 VCCBRAM (power), L17 VCCO_15 (power), M4 VCCO_35 (power), M8 VCCINT (power), M12 VCCAUX (power), M14 VCCO_14 (power), N1 VCCO_35 (power), N7 VCCINT (power), N11 VCCBRAM (power), N21 VCCO_15 (power), P8 VCCINT (power), P10 VCCINT (power), P12 VCCAUX (power), P18 VCCO_14 (power), R5 VCCO_34 (power), R7 VCCINT (power), R9 VCCINT (power), R11 VCCAUX (power), R15 VCCO_14 (power), T2 VCCO_34 (power), T8 VCCINT (power), T10 VCCINT (power), T12 VCCO_0 (power), T22 VCCO_14 (power), U19 VCCO_14 (power), V6 VCCO_34 (power), V16 VCCO_13 (power), W3 VCCO_34 (power), W13 VCCO_13 (power), Y10 VCCO_13 (power), Y20 VCCO_14 (power)
part K pins: A2 GND (power), A3 GND (power), A5 GND (power), A7 GND (power), A9 GND (power), A11 GND (power), A12 GND (power), A22 GND (power), AA2 GND (power), AA12 GND (power), AA22 GND (power), AB9 GND (power), AB19 GND (power), B3 GND (power), B12 GND (power), B19 GND (power), C3 GND (power), C6 GND (power), C10 GND (power), C12 GND (power), C16 GND (power), D3 GND (power), D4 GND (power), D8 GND (power), D12 GND (power), D13 GND (power), E4 GND (power), E5 GND (power), E7 GND (power), E9 GND (power), E11 GND (power), E20 GND (power), F5 GND (power), F11 GND (power), F17 GND (power), G5 GND (power), G6 GND (power), G7 GND (power), G8 GND (power), G9 GND (power), G10 GND (power), G12 GND (power), G14 GND (power), H1 GND (power), H7 GND (power), H9 GND (power), H11 GND (power), H21 GND (power), J8 GND (power), J10 GND (power), J12 GND (power), J18 GND (power), K5 GND (power), K7 GND (power), K9 GNDADC_0 (power), K11 GND (power), K15 GND (power), L2 GND (power), L8 GND (power), L22 GND (power), M7 GND (power), M11 GND (power), M19 GND (power), N6 GND (power), N8 GND (power), N16 GND (power), P3 GND (power), P7 GND (power), P9 GND (power), P11 GND (power), P13 GND (power), R8 GND (power), R10 GND (power), R12 GND (power), R20 GND (power), T7 GND (power), T9 GND (power), T11 GND (power), T17 GND (power), U4 GND (power), U14 GND (power), V1 GND (power), V11 GND (power), V21 GND (power), W8 GND (power), W18 GND (power), Y5 GND (power), Y15 GND (power)
part A text: BANK 13
part B text: BANK 14
part C text: BANK 15
part D text: BANK 16
part E text: BANK 34
part F text: BANK 35

## XTAL
designator Q?  value FT13A-24.0/16-30-50/48  (hidden comment: XTAL)
Кварцевый резонатор 24MHz; PackageReference: KX7
simulation model XTAL (Spice Subcircuit)
3D model SW3dPS-hc49 (PCB3D Model)
footprint QRZ4
footprint KX-5T
footprint FT7A (Кварцевый резонатор)
footprint OSC-7M
pins: 1 OSC1, 3 OSC2

## XTAL_1
designator Q?, comment XMD-SMD3225  12MHz
Chengdu Kingbri Frequency Technology Co., Ltd; Value: 01XMD118JVF0012000000; PackageReference: SMD 3.2x2.5мм
simulation model XTAL (Spice Subcircuit)
3D model SW3dPS-hc49 (PCB3D Model)
pins: 1 OSC1, 3 OSC2

## XTAL_2
designator Q?, comment value FT13A-25.0/16-30-50/48  (hidden comment: XTAL)
Кварцевый резонатор 25MHz; PackageReference: KX7
simulation model XTAL (Spice Subcircuit)
3D model SW3dPS-hc49 (PCB3D Model)
footprint QRZ4
footprint KX-5T
footprint FT7A (Кварцевый резонатор)
footprint OSC-7M
pins: 1 OSC1, 3 OSC2

## К5101НВ04FI
designator U3
АЦП 95мГц 14бит; PackageReference: VQFN48L; Value: К5101НВ04FI; ClassName: ADC-2
footprint VQFN48L
pins: 0 GND (power), 2 DCO (power), 3 D0 (out), 4 D1 (out), 5 D2 (out), 6 D3 (out), 7 VddD (power), 8 D4 (out), 9 D5 (out), 10 D6 (out), 11 D7 (out), 12 VddD (power), 14 D8 (out), 15 D9 (out), 16 D10 (out), 17 D11 (out), 18 D12 (out), 19 D13 (out), 20 VddD (power), 21 D14 (out), 22 D15 (out), 23 OR (power), 25 PD (in), 26 VREFn, 27 VREFp, 28 VREF, 29 VddA (power), 30 RBIAS, 31 SENSE (in), 32 VddA (power), 33 VddA (power), 34 CLKp (in), 35 CLKn (in), 36 VddA (power), 37 VCM, 38 VddA (power), 39 IN- (in), 40 IN+ (in), 41 VddA (power), 42 VddA (power), 43 VddA (power), 44 VddA (power), 45 RESET (in), 46 SDIO (in), 47 MODE, 48 nCS
text: ADC